# Altium integrated library Robo_Board_Library.IntLib: 1 symbol
Pins are listed as number, name and electrical type; pins without a type are passive.

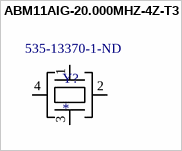
[diagram p0: symbol ABM11AIG-20.000MHZ-4Z-T3]

## ABM11AIG-20.000MHZ-4Z-T3
designator Y?  Supplier Part Number 1: 535-13370-1-ND
20MHZ Crystal Oscillator; Supplier 1: Digi-Key; ComponentLink1Description: Datasheet; ComponentLink1URL: http://www.abracon.com/AIGcrystals/ABM11AIG.pdf
footprint ABM11AIG
pins: 1 IN, 2 GND, 3 OUT, 4 GND